# Altium footprint library Header_1x10.PcbLib: 1 footprints
Each footprint in its own frame and in the unit in brackets; x right, y up, seen from the top. Pads: shape width x height; smd on the part's side, far side on the other; paste and mask are expansions set on the pad; w line width, h text height; cw(c..) or ccw(c..) is an arc to the next point about the centre after c.
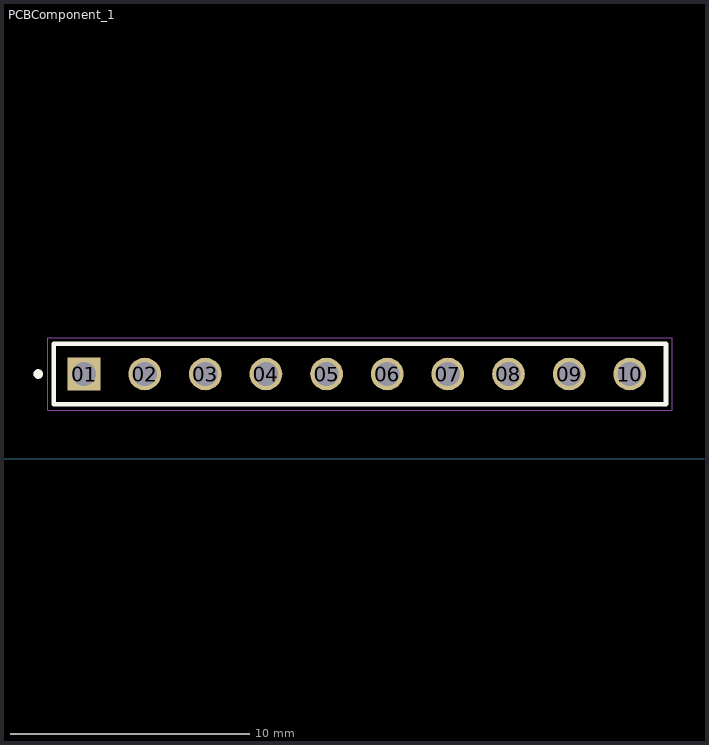
[diagram p0: the footprint, top view; thin cyan lines are the x and y axes]

## PCBComponent_1 [mm]
pads (10):
  rect 1.37x1.37 hole 1.02: 01(3.683,3.556)
  round 1.37 hole 1.02: 02(6.223,3.556) 03(8.763,3.556) 04(11.303,3.556) 05(13.843,3.556) 06(16.383,3.556) 07(18.923,3.556) 08(21.463,3.556) 09(24.003,3.556) 10(26.543,3.556)
Top Overlay:
  circle w0.2: c1.763,3.556 r0.1
  lines w0.2: 2.413,2.286 2.413,4.826 28.067,4.826 28.067,2.286 2.413,2.286
Mechanical 13:
  circle w0.2: c1.763,3.556 r0.1
  lines w0.1: 2.413,2.286 2.413,4.826 ; 2.413,2.286 28.067,2.286 ; 2.413,2.286 2.413,4.826 ; 2.413,4.826 28.067,4.826 ; 2.413,4.826 28.067,4.826 ; 28.067,2.286 28.067,3.175 28.067,4.445 28.067,4.826 ; 28.067,2.286 28.067,4.826
Mechanical 15:
  lines w0.05: 2.163,2.036 2.163,5.076 28.321,5.076 28.321,2.036 2.163,2.036
3D body "TSW-110-07-G-S.stp": height 8.38, standoff -2.54, extent 2.413,2.286 27.94,4.826